# Altium schematic symbol library SCH - FET - P-CH - MOSFET P-CH GDS.SCHLIB: 1 symbol
Pins are listed as number, name and electrical type; pins without a type are passive.

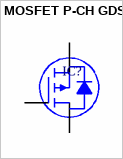
[diagram p0: symbol MOSFET P-CH GDS]

## MOSFET P-CH GDS
designator IC?
pins: D, G, S